# Altium integrated library SMA-J-P-H-RA-TH1.IntLib: 1 symbol
Pins are listed as number, name and electrical type; pins without a type are passive.

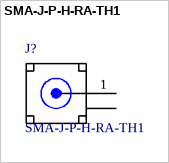
[diagram p0: symbol SMA-J-P-H-RA-TH1]

## SMA-J-P-H-RA-TH1
designator J?
SnapEDA_Link: https://www.snapeda.com/parts/SMA-J-P-H-RA-TH1/Samtec%20Inc./view-part/134498/?ref=snap; Value: *
footprint *SAMTEC_SMA-J-P-H-RA-TH1
pins: 1 SIGNAL, 2 GND (power), 3 GND (power), 4 GND (power), 5 GND (power)